# EAGLE library part SBH11-NBPC-D06 (library con-sullins)
HEADER - Vertical, Shrouded
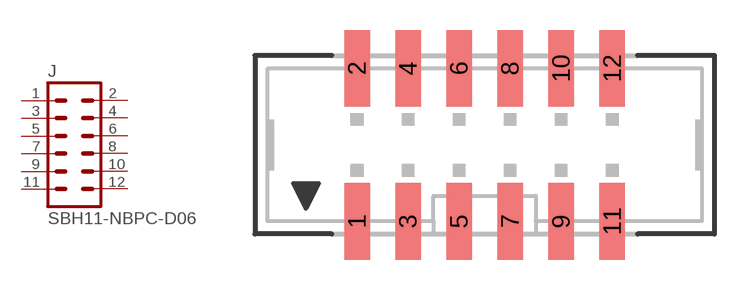
[diagram p21: symbol with the pads of SBH11-NBPC-D06; footprint SBH11-NBPC-D06]

Designator prefix J

## SBH11-NBPC-D06  [SBH11-NBPC-D06]
1  1  pas
2  2  pas
3  3  pas
4  4  pas
5  5  pas
6  6  pas
7  7  pas
8  8  pas
9  9  pas
10  10  pas
11  11  pas
12  12  pas

## Footprint SBH11-NBPC-D06 (pad centres in mm)
SMD HEADER - 0.1", Shrouded, Vertical
smd 1.27 x 3.81: 1 -6.35,-3.81; 2 -6.35,3.81; 3 -3.81,-3.81; 4 -3.81,3.81; 5 -1.27,-3.81; 6 -1.27,3.81; 7 1.27,-3.81; 8 1.27,3.81; 9 3.81,-3.81; 10 3.81,3.81; 11 6.35,-3.81; 12 6.35,3.81